# Altium schematic symbol library lib_st.SchLib: 8 symbols
Pins are listed as number, name and electrical type; pins without a type are passive.

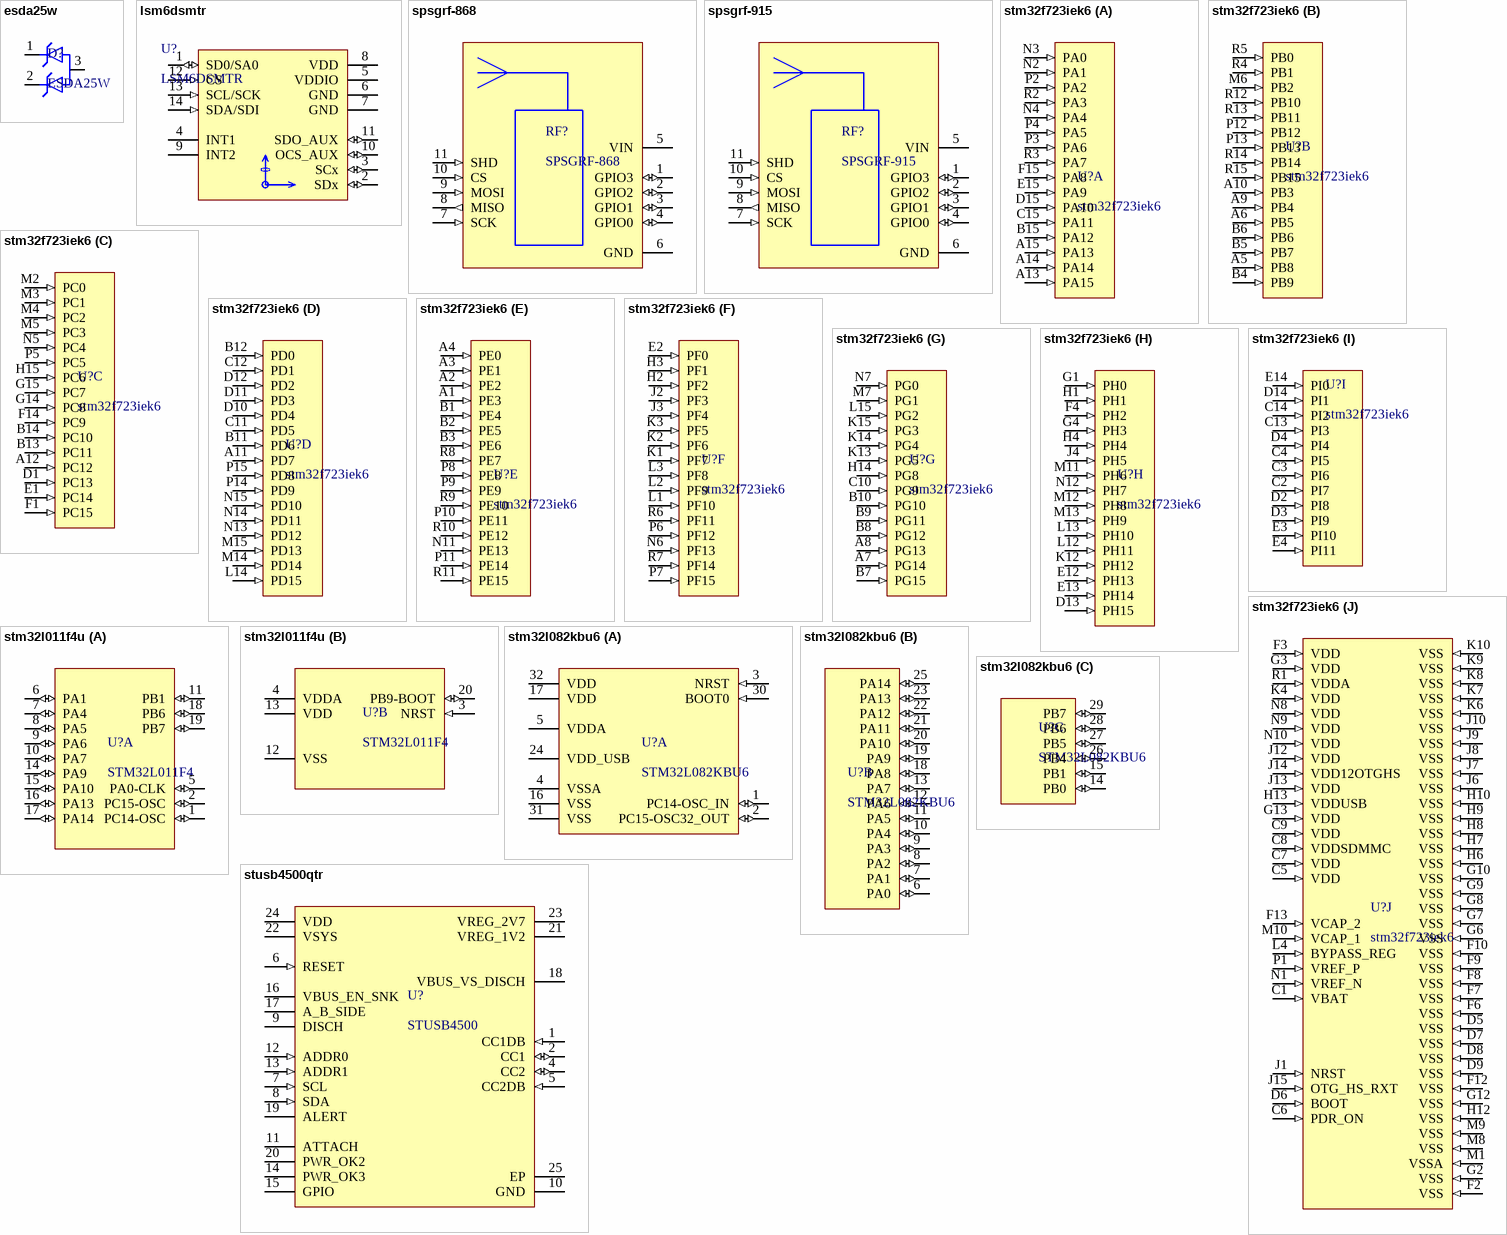
[diagram p0: symbols esda25w to stusb4500qtr]

## esda25w
designator D?, comment ESDA25W
TRANSIL array for data protection; ComponentLink1Description: datasheet; ComponentLink1URL: https://www.st.com/content/ccc/resource/technical/document/datasheet/cd/9b/8d/39/1f/d4/43/ba/CD00064033.pdf/files/CD00064033.pdf/jcr:content/translations/en.CD00064033.pdf
footprint SOT65P210X110-3N_SOT323-3L (SOT23, 3-Leads, Body 2.00x2.10mm, Pitch 0.65mm, IPC Medium Density)
pins: 1, 2, 3

## lsm6dsmtr
designator U?, comment LSM6DSMTR
6DOF IMU acc+gyro
footprint QFN50P300X250X86-14N (QFN, 14-Leads, Body 3.00x2.50mm, Pitch 0.50mm, IPC Medium Density)
pins: 1 SD0/SA0 (io), 2 SDx (io), 3 SCx (io), 4 INT1 (oc), 5 VDDIO (power), 6 GND (power), 7 GND (power), 8 VDD (power), 9 INT2 (oc), 10 OCS_AUX (io), 11 SDO_AUX (io), 12 CS (in), 13 SCL/SCK (in), 14 SDA/SDI (in)

## spsgrf-868
designator RF?, comment SPSGRF-868
Sub-GHz (868 or 915 MHz) low power programmable RF / transceiver modules; ComponentLink1Description: datasheet; ComponentLink1URL: https://www.mouser.se/datasheet/2/389/spsgrf-955290.pdf
footprint spsgrf
pins: 1 GPIO3 (io), 2 GPIO2 (io), 3 GPIO1 (io), 4 GPIO0 (io), 5 VIN (power), 6 GND (power), 7 SCK (in), 8 MISO (out), 9 MOSI (in), 10 CS (in), 11 SHD (in)

## spsgrf-915
designator RF?, comment SPSGRF-915
Sub-GHz (868 or 915 MHz) low power programmable RF / transceiver modules; ComponentLink1Description: datasheet; ComponentLink1URL: https://www.mouser.se/datasheet/2/389/spsgrf-955290.pdf
footprint spsgrf
pins: 1 GPIO3 (io), 2 GPIO2 (io), 3 GPIO1 (io), 4 GPIO0 (io), 5 VIN (power), 6 GND (power), 7 SCK (in), 8 MISO (out), 9 MOSI (in), 10 CS (in), 11 SHD (in)

## stm32f723iek6
designator U?
footprint BGA176C65P15X15_1000X1000X60 (BGA, 176-Leads, Body 10.00x10.00mmx0.60mm, Pitch 0.65mm)
part A pins: A13 PA15 (in), A14 PA14 (in), A15 PA13 (in), B15 PA12 (in), C15 PA11 (in), D15 PA10 (in), E15 PA9 (in), F15 PA8 (in), N2 PA1 (in), N3 PA0 (in), N4 PA4 (in), P2 PA2 (in), P3 PA6 (in), P4 PA5 (in), R2 PA3 (in), R3 PA7 (in)
part B pins: A5 PB8 (in), A6 PB5 (in), A9 PB4 (in), A10 PB3 (in), B4 PB9 (in), B5 PB7 (in), B6 PB6 (in), M6 PB2 (in), P12 PB12 (in), P13 PB13 (in), R4 PB1 (in), R5 PB0 (in), R12 PB10 (in), R13 PB11 (in), R14 PB14 (in), R15 PB15 (in)
part C pins: A12 PC12 (in), B13 PC11 (in), B14 PC10 (in), D1 PC13 (in), E1 PC14 (in), F1 PC15 (in), F14 PC9 (in), G14 PC8 (in), G15 PC7 (in), H15 PC6 (in), M2 PC0 (in), M3 PC1 (in), M4 PC2 (in), M5 PC3 (in), N5 PC4 (in), P5 PC5 (in)
part D pins: A11 PD7 (in), B11 PD6 (in), B12 PD0 (in), C11 PD5 (in), C12 PD1 (in), D10 PD4 (in), D11 PD3 (in), D12 PD2 (in), L14 PD15 (in), M14 PD14 (in), M15 PD13 (in), N13 PD12 (in), N14 PD11 (in), N15 PD10 (in), P14 PD9 (in), P15 PD8 (in)
part E pins: A1 PE3 (in), A2 PE2 (in), A3 PE1 (in), A4 PE0 (in), B1 PE4 (in), B2 PE5 (in), B3 PE6 (in), N11 PE13 (in), P8 PE8 (in), P9 PE9 (in), P10 PE11 (in), P11 PE14 (in), R8 PE7 (in), R9 PE10 (in), R10 PE12 (in), R11 PE15 (in)
part F pins: E2 PF0 (in), H2 PF2 (in), H3 PF1 (in), J2 PF3 (in), J3 PF4 (in), K1 PF7 (in), K2 PF6 (in), K3 PF5 (in), L1 PF10 (in), L2 PF9 (in), L3 PF8 (in), N6 PF13 (in), P6 PF12 (in), P7 PF15 (in), R6 PF11 (in), R7 PF14 (in)
part G pins: A7 PG14 (in), A8 PG13 (in), B7 PG15 (in), B8 PG12 (in), B9 PG11 (in), B10 PG10 (in), C10 PG9 (in), H14 PG8 (in), K13 PG5 (in), K14 PG4 (in), K15 PG3 (in), L15 PG2 (in), M7 PG1 (in), N7 PG0 (in)
part H pins: D13 PH15 (in), E12 PH13 (in), E13 PH14 (in), F4 PH2 (in), G1 PH0 (in), G4 PH3 (in), H1 PH1 (in), H4 PH4 (in), J4 PH5 (in), K12 PH12 (in), L12 PH11 (in), L13 PH10 (in), M11 PH6 (in), M12 PH8 (in), M13 PH9 (in), N12 PH7 (in)
part I pins: C2 PI7 (in), C3 PI6 (in), C4 PI5 (in), C13 PI3 (in), C14 PI2 (in), D2 PI8 (in), D3 PI9 (in), D4 PI4 (in), D14 PI1 (in), E3 PI10 (in), E4 PI11 (in), E14 PI0 (in)
part J pins: C1 VBAT (in), C5 VDD (in), C6 PDR_ON (in), C7 VDD (in), C8 VDDSDMMC (in), C9 VDD (in), D5 VSS (in), D6 BOOT (in), D7 VSS (in), D8 VSS (in), D9 VSS (in), F2 VSS (in), F3 VDD (in), F6 VSS (in), F7 VSS (in), F8 VSS (in), F9 VSS (in), F10 VSS (in), F12 VSS (in), F13 VCAP_2 (in), G2 VSS (in), G3 VDD (in), G6 VSS (in), G7 VSS (in), G8 VSS (in), G9 VSS (in), G10 VSS (in), G12 VSS (in), G13 VDD (in), H6 VSS (in), H7 VSS (in), H8 VSS (in), H9 VSS (in), H10 VSS (in), H12 VSS (in), H13 VDDUSB (in), J1 NRST (in), J6 VSS (in), J7 VSS (in), J8 VSS (in), J9 VSS (in), J10 VSS (in), J12 VDD (in), J13 VDD (in), J14 VDD12OTGHS (in), J15 OTG_HS_RXT (in), K4 VDD (in), K6 VSS (in), K7 VSS (in), K8 VSS (in), K9 VSS (in), K10 VSS (in), L4 BYPASS_REG (in), M1 VSSA (in), M8 VSS (in), M9 VSS (in), M10 VCAP_1 (in), N1 VREF_N (in), N8 VDD (in), N9 VDD (in), N10 VDD (in), P1 VREF_P (in), R1 VDDA (in)

## stm32l011f4u
designator U?, comment STM32L011F4
footprint QFN50P300X300X60-20N (QFN, 20-Leads, Body 3.00x3.00mm, Pitch 0.50mm, IPC Medium Density)
part A pins: 1 PC14-OSC (io), 2 PC15-OSC (io), 5 PA0-CLK (io), 6 PA1 (io), 7 PA4 (io), 8 PA5 (io), 9 PA6 (io), 10 PA7 (io), 11 PB1 (io), 14 PA9 (io), 15 PA10 (io), 16 PA13 (io), 17 PA14 (io), 18 PB6 (io), 19 PB7 (io)
part B pins: 3 NRST (in), 4 VDDA (power), 12 VSS (power), 13 VDD (power), 20 PB9-BOOT (io)

## stm32l082kbu6
designator U?, comment STM32L082KBU6
Ultra-low-power 32-bit MCU Arm-based Cortex-M0+, up to 192KB / Flash, 20KB SRAM, 6KB EEPROM, USB, ADC, DACs, AES; ComponentLink1Description: datasheet; ComponentLink1URL: https://www.mouser.se/datasheet/2/389/stm32l082kb-956309.pdf
footprint QFN50P500X500X60_HS-33N (QFN, 32-Leads, Body 5,00x5,00mm, Pitch 0,50mm, Thermal Pad 3,50x3,50mm, IPC Medium Density)
part A pins: 1 PC14-OSC_IN (io), 2 PC15-OSC32_OUT (io), 3 NRST (in), 4 VSSA (power), 5 VDDA (power), 16 VSS (power), 17 VDD (power), 24 VDD_USB (power), 30 BOOT0 (in), 31 VSS (power), 32 VDD (power)
part B pins: 6 PA0 (io), 7 PA1 (io), 8 PA2 (io), 9 PA3 (io), 10 PA4 (io), 11 PA5 (io), 12 PA6 (io), 13 PA7 (io), 18 PA8 (io), 19 PA9 (io), 20 PA10 (io), 21 PA11 (io), 22 PA12 (io), 23 PA13 (io), 25 PA14 (io)
part C pins: 14 PB0 (io), 15 PB1 (io), 26 PB4 (io), 27 PB5 (io), 28 PB6 (io), 29 PB7 (io)

## stusb4500qtr
designator U?, comment STUSB4500
Standalone USB PD sink controller with short-to-VBUS protections; ComponentLink1Description: datasheet; ComponentLink1URL: https://www.st.com/resource/en/datasheet/stusb4500.pdf
footprint QFN50P400X400X100_HS-25N-STUSB4500 (QFN, 24-Leads, Body 4,00x4,00mm, Pitch 0,50mm, Thermal Pad 2,68x2,68mm, IPC Medium Density)
pins: 1 CC1DB (in), 2 CC1 (io), 4 CC2 (io), 5 CC2DB (in), 6 RESET (in), 7 SCL (in), 8 SDA (in), 9 DISCH (oc), 10 GND (power), 11 ATTACH (oc), 12 ADDR0 (in), 13 ADDR1 (in), 14 PWR_OK3 (oc), 15 GPIO (oc), 16 VBUS_EN_SNK (oc), 17 A_B_SIDE (oc), 18 VBUS_VS_DISCH (oc), 19 ALERT (oc), 20 PWR_OK2 (oc), 21 VREG_1V2 (power), 22 VSYS (power), 23 VREG_2V7 (power), 24 VDD (power), 25 EP (power)